# Altium schematic symbol library Schlib1.SchLib: 11 symbols
Pins are listed as number, name and electrical type; pins without a type are passive.

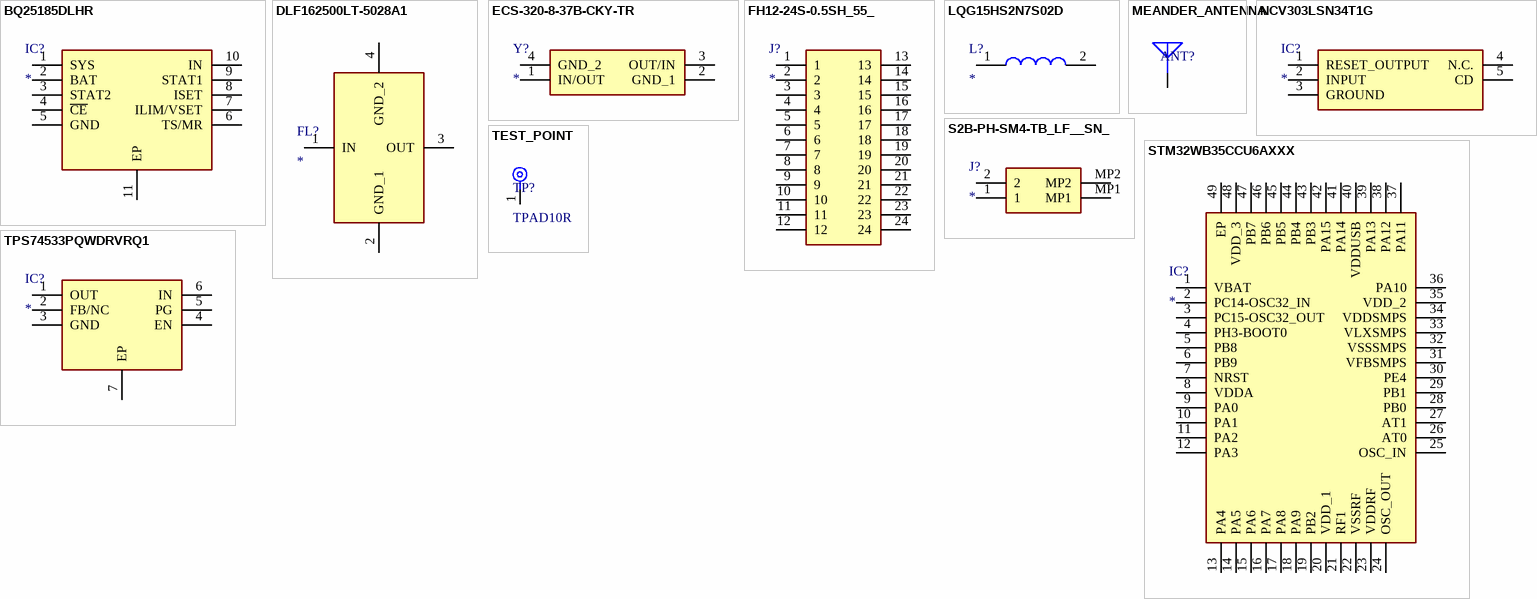
[diagram p0: symbols BQ25185DLHR to TPS74533PQWDRVRQ1]

## BQ25185DLHR
designator IC?
Integrated Circuit; Manufacturer_Name: Texas Instruments; Manufacturer_Part_Number: BQ25185DLHR; Datasheet Link: https://www.ti.com/lit/ds/symlink/bq25185.pdf?ts=1706857561339&ref_url=https%253A%252F%252Fwww.ti.com%252Fproduct%252FBQ25185; Height: 0.8mm; Mouser Part Number: 595-BQ25185DLHR; Mouser Price/Stock: https://www.mouser.co.uk/ProductDetail/Texas-Instruments/BQ25185DLHR?qs=Z%252BL2brAPG1IbO%2FV3RqsaPw%3D%3D
footprint SON40P220X200X80-11N
pins: 1 SYS, 2 BAT, 3 STAT2, 4 ~{CE}, 5 GND, 6 TS/MR, 7 ILIM/VSET, 8 ISET, 9 STAT1, 10 IN, 11 EP

## DLF162500LT-5028A1
designator FL?
Filter; Manufacturer_Name: TDK; Manufacturer_Part_Number: DLF162500LT-5028A1; Datasheet Link: https://product.tdk.com/system/files/dam/doc/product/rf/rf/filter/catalog/rf_lpf_dlf162500lt-5028a1_en.pdf; Height: 0.4mm; Mouser Part Number: 810-DLF16250LT5028A1; Mouser Price/Stock: https://www.mouser.co.uk/ProductDetail/TDK/DLF162500LT-5028A1?qs=U%2FZX79kHR%2FlwIbAISCs3qA%3D%3D; Arrow Part Number: DLF162500LT-5028A1; Arrow Price/Stock: https://www.arrow.com/en/products/dlf162500lt-5028a1/tdk?utm_currency=USD&region=nac
footprint DLF162500LT5028A1
pins: 1 IN, 2 GND_1, 3 OUT, 4 GND_2

## ECS-320-8-37B-CKY-TR
designator Y?
Crystal or Oscillator; Manufacturer_Name: ECS; Manufacturer_Part_Number: ECS-320-8-37B-CKY-TR; Datasheet Link: https://ecsxtal.com/store/pdf/ECX-1637B.pdf; Height: 0.5mm; Mouser Part Number: 520-320-8-37B-CKYT; Mouser Price/Stock: https://www.mouser.co.uk/ProductDetail/ECS/ECS-320-8-37B-CKY-TR?qs=l7cgNqFNU1jF5E15eCxZkA%3D%3D; Arrow Part Number: ECS-320-8-37B-CKY-TR; Arrow Price/Stock: https://www.arrow.com/en/products/ecs-320-8-37b-cky-tr/ecs-international?region=nac
footprint ECS320837BCKYTR
pins: 1 IN/OUT, 2 GND_1, 3 OUT/IN, 4 GND_2

## FH12-24S-0.5SH_55_
designator J?
Connector; Manufacturer_Name: Hirose; Manufacturer_Part_Number: FH12-24S-0.5SH(55); Datasheet Link: https://datasheet.datasheetarchive.com/originals/distributors/SFDatasheet-1/sf-00023459.pdf; Mouser Part Number: 798-FH12-24S-0.5SH55; Mouser Price/Stock: https://www.mouser.co.uk/ProductDetail/Hirose-Connector/FH12-24S-0.5SH55?qs=Ux3WWAnHpjDGmuhYLgxkoQ%3D%3D; Arrow Part Number: FH12-24S-0.5SH(55); Arrow Price/Stock: https://www.arrow.com/en/products/fh12-24s-0-5sh-55/hirose-electric.html?utm_currency=USD&region=asia
footprint FH12-24S-0.5SH(55)
pins: 1, 2, 3, 4, 5, 6, 7, 8, 9, 10, 11, 12, 13, 14, 15, 16, 17, 18, 19, 20, 21, 22, 23, 24

## LQG15HS2N7S02D
designator L?
Inductor; Manufacturer_Name: Murata Electronics; Manufacturer_Part_Number: LQG15HS2N7S02D; Datasheet Link: https://search.murata.co.jp/Ceramy/image/img/P02/JELF243B-0010.pdf; Height: 0.6mm; Mouser Part Number: 81-LQG15HS2N7S02D; Mouser Price/Stock: https://www.mouser.co.uk/ProductDetail/Murata-Electronics/LQG15HS2N7S02D?qs=ctz47l0uL1AKrLI74yO5Qw%3D%3D; Arrow Part Number: LQG15HS2N7S02D; Arrow Price/Stock: https://www.arrow.com/en/products/lqg15hs2n7s02d/murata-manufacturing?utm_currency=USD&region=nac
footprint LQG15WH0N7B02D
pins: 1, 2

## MEANDER_ANTENNA
designator ANT?  (value not drawn)
2.4GHz meander antenna; ComponentLink1Description: ST Guidelines; ComponentLink1URL: https://www.st.com/resource/en/application_note/an5129-guidelines-for-meander-design-using-lowcost-pcb-antennae-with-24-ghz-radio-for-stm32wbwb0-mcus-stmicroelectronics.pdf
footprint MEANDER_ANTENNA (2.4GHz meander antenna)
pins: 0

## NCV303LSN34T1G
designator IC?
Integrated Circuit; Manufacturer_Name: onsemi; Manufacturer_Part_Number: NCV303LSN34T1G; Datasheet Link: https://www.onsemi.com/pub/Collateral/NCP302-D.PDF; Height: 1.1mm; Mouser Part Number: 863-NCV303LSN34T1G; Mouser Price/Stock: https://www.mouser.com/Search/Refine.aspx?Keyword=863-NCV303LSN34T1G; Arrow Part Number: NCV303LSN34T1G; Arrow Price/Stock: https://www.arrow.com/en/products/ncv303lsn34t1g/on-semiconductor.html?utm_currency=USD&region=europe
footprint SOT95P275X110-5N
pins: 1 RESET_OUTPUT, 2 INPUT, 3 GROUND, 4 N.C., 5 CD

## S2B-PH-SM4-TB_LF__SN_
designator J?
Connector; Manufacturer_Name: JST (JAPAN SOLDERLESS TERMINALS); Manufacturer_Part_Number: S2B-PH-SM4-TB(LF)(SN); Description: Conn Shrouded Header (4 Sides) HDR 2 POS 2mm Solder RA Side Entry SMD T/R; Datasheet Link: https://www.jst-mfg.com/product/pdf/eng/ePH.pdf; Height: 6.6mm; Mouser Part Number: N/A; Mouser Price/Stock: https://www.mouser.co.uk/ProductDetail/JST-Commercial/S2B-PH-SM4-TBLFSN?qs=QpmGXVUTftEA9IU90i0xlg%3D%3D; Arrow Part Number: S2B-PH-SM4-TB(LF)(SN); Arrow Price/Stock: https://www.arrow.com/en/products/s2b-ph-sm4-tb-lf-sn/jst-manufacturing?utm_currency=USD&region=europe
footprint S2BPHSM4TBLFSN
pins: 1, 2, MP1, MP2

## STM32WB35CCU6AXXX
designator IC?
Integrated Circuit; Manufacturer_Name: STMicroelectronics; Manufacturer_Part_Number: STM32WB35CCU6AXXX; Height: 0.65mm
footprint QFN50P700X700X65-49N-D
pins: 1 VBAT, 2 PC14-OSC32_IN, 3 PC15-OSC32_OUT, 4 PH3-BOOT0, 5 PB8, 6 PB9, 7 NRST, 8 VDDA, 9 PA0, 10 PA1, 11 PA2, 12 PA3, 13 PA4, 14 PA5, 15 PA6, 16 PA7, 17 PA8, 18 PA9, 19 PB2, 20 VDD_1, 21 RF1, 22 VSSRF, 23 VDDRF, 24 OSC_OUT, 25 OSC_IN, 26 AT0, 27 AT1, 28 PB0, 29 PB1, 30 PE4, 31 VFBSMPS, 32 VSSSMPS, 33 VLXSMPS, 34 VDDSMPS, 35 VDD_2, 36 PA10, 37 PA11, 38 PA12, 39 PA13, 40 VDDUSB, 41 PA14, 42 PA15, 43 PB3, 44 PB4, 45 PB5, 46 PB6, 47 PB7, 48 VDD_3, 49 EP

## TEST_POINT
designator TP?, comment TPAD10R
Testpont Pad 10R
footprint TEST_POINT
pins: 1

## TPS74533PQWDRVRQ1
designator IC?
Integrated Circuit; Manufacturer_Name: Texas Instruments; Manufacturer_Part_Number: TPS74533PQWDRVRQ1; Datasheet Link: https://www.ti.com/lit/gpn/TPS745-Q1; Height: 0.8mm; Mouser Part Number: 595-PS74533PQWDRVRQ1; Mouser Price/Stock: https://www.mouser.co.uk/ProductDetail/Texas-Instruments/TPS74533PQWDRVRQ1?qs=%252B6g0mu59x7KMjoigNjBCww%3D%3D
footprint SON65P200X200X80-7N
pins: 1 OUT, 2 FB/NC, 3 GND, 4 EN, 5 PG, 6 IN, 7 EP